# EAGLE library part DS7505 (library kanflo)
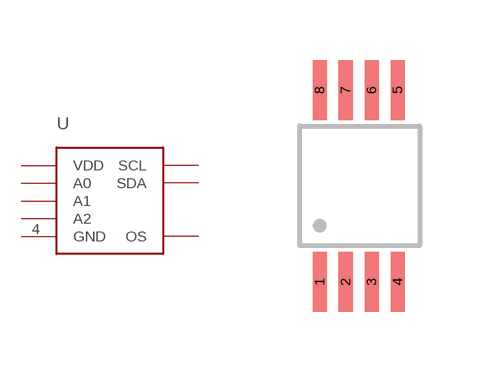
[diagram p23: symbol with the pads of UMAX8; footprint UMAX8]

Designator prefix U

## DS7505-UMAX8  [UMAX8]
1  SDA
2  SCL  in
3  OS  out
4  GND
5  A2  in
6  A1  in
7  A0  in
8  VDD  pwr

## Footprint UMAX8 (pad centres in mm)
smd 0.35 x 1.5: 1 0.5,-0.9; 2 1.15,-0.9; 3 1.8,-0.9; 4 2.45,-0.9; 5 2.45,3.9; 6 1.8,3.9; 7 1.15,3.9; 8 0.5,3.9